# EAGLE library part AVRISP6 (library mes_avr)
6-pin dual-row connector for Atmel AVRISP programmer interface
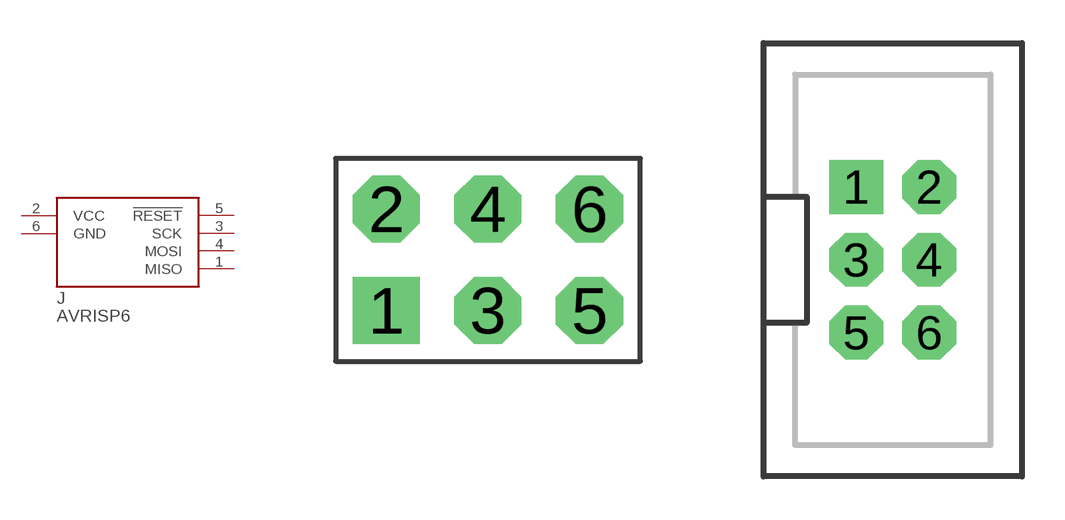
[diagram p1: symbol with the pads of CON6P2R; footprints CON6P2R, 2X3-SHROUDED]

Designator prefix J

## AVRISP6  [CON6P2R]
1  MISO  in
2  VCC  pwr
3  SCK  out
4  MOSI  out
5  !RESET  out
6  GND  pwr

## AVRISP6SHROUDED  [2X3-SHROUDED]
Pads as for CON6P2R

## Footprint CON6P2R (pad centres in mm)
6-pin dual row 0.1" connector
drill 1.016 pad 1.676 square: 1 -2.54,-1.27
drill 1.016 pad 1.676 octagon: 2 -2.54,1.27; 3 0,-1.27; 4 0,1.27; 5 2.54,-1.27; 6 2.54,1.27

## Footprint 2X3-SHROUDED (pad centres in mm)
drill 1.016 pad 1.88 square: 1 -1.27,2.54
drill 1.016 pad 1.88 octagon: 2 1.27,2.54; 3 -1.27,0; 4 1.27,0; 5 -1.27,-2.54; 6 1.27,-2.54